# Altium footprint library vsm_lib.PcbLib: 68 footprints (part 1 of 5)
Each footprint in its own frame and in the unit in brackets; x right, y up, seen from the top. Pads: shape width x height; smd on the part's side, far side on the other; paste and mask are expansions set on the pad; w line width, h text height; cw(c..) or ccw(c..) is an arc to the next point about the centre after c.
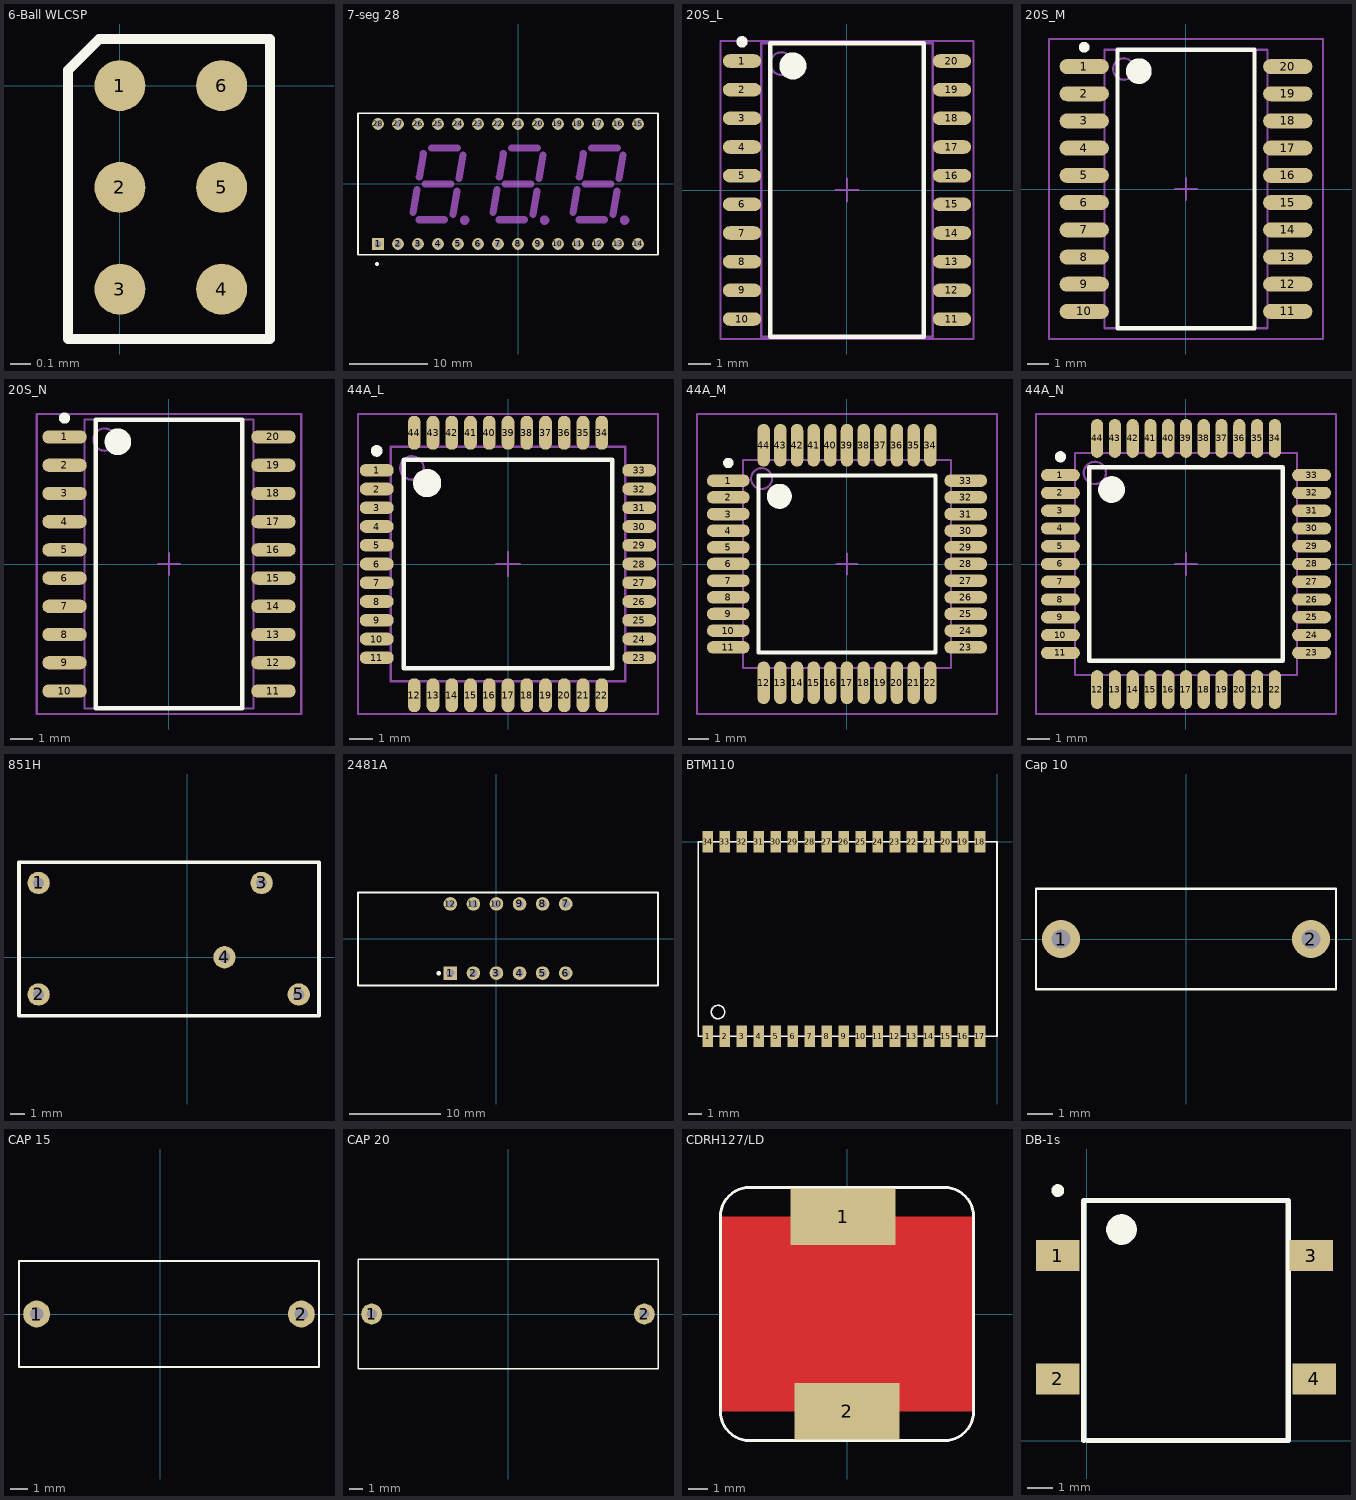
[diagram p0: the footprints below, top view; thin cyan lines are the x and y axes]

## 6-Ball WLCSP [mm]
pads (6):
  round 0.25 smd: 1(0,0) 2(0,-0.5) 3(0,-1) 4(0.5,-1) 5(0.5,-0.5) 6(0.5,0)
Top Overlay:
  lines w0.05: -0.254,-1.245 0.737,-1.245 0.737,0.229 -0.102,0.229 -0.254,0.076 -0.254,-1.245
3D body: height 0.65, standoff 0, extent -0.279,-1.27 0.762,0.254

## 7-seg 28 [mm]
height 8
pads (28):
  rect 1.5x1.5 hole 0.9: 1(-17.78,-7.62)
  round 1.5 hole 0.9: 2(-15.24,-7.62) 3(-12.7,-7.62) 4(-10.16,-7.62) 5(-7.62,-7.62) 6(-5.08,-7.62) 7(-2.54,-7.62) 8(0,-7.62) 9(2.54,-7.62) 10(5.08,-7.62) 11(7.62,-7.62) 12(10.16,-7.62) 13(12.7,-7.62) 14(15.24,-7.62) 15(15.24,7.62) 16(12.7,7.62) 17(10.16,7.62) 18(7.62,7.62) 19(5.08,7.62) 20(2.54,7.62) 21(0,7.62) 22(-2.54,7.62) 23(-5.08,7.62) 24(-7.62,7.62) 25(-10.16,7.62) 26(-12.7,7.62) 27(-15.24,7.62) 28(-17.78,7.62)
Top Overlay:
  circle w0.25: c-17.905,-10.16 r0.125
  lines w0.2: -20.32,-9 -20.32,9 17.78,9 17.78,-9 -20.32,-9
Mechanical 1:
  circle w0.86: c13.53,-4.6 r0.17
  circle w0.86: c-6.77,-4.6 r0.17
  circle w0.86: c3.37,-4.6 r0.17
  lines w0.9: -13.36,-3.65 -12.83,-0.7 ; -12.592,-4.55 -9.33,-4.55 ; -12.54,0.9 -12.03,3.84 ; -11.79,0 -8.51,0 ; -10.988,4.55 -7.72,4.55 ; -8.28,-3.85 -7.76,-0.9 ; -7.48,0.7 -6.96,3.65 ; -3.2,-3.65 -2.67,-0.7 ; -2.432,-4.55 0.83,-4.55 ; -2.38,0.9 -1.87,3.84 ; -1.63,0 1.65,0 ; -0.828,4.55 2.44,4.55 ; 1.88,-3.85 2.4,-0.9 ; 2.68,0.7 3.2,3.65 ; 6.96,-3.65 7.49,-0.7 ; 7.728,-4.55 10.99,-4.55 ; 7.78,0.9 8.29,3.84 ; 8.53,0 11.81,0 ; 9.332,4.55 12.6,4.55 ; 12.04,-3.85 12.56,-0.9 ; 12.84,0.7 13.36,3.65
3D body: height 8, standoff 0, extent -20.32,-9.017 17.78,9.017

## 20S_L [mm] "SOIC, 20-Leads, Body 12.8x7.5mm, Pitch 1.27mm, IPC High Density"
height 2.67
pads (20):
  oval 1.7x0.6 smd: 1(-4.65,5.715) 2(-4.65,4.445) 3(-4.65,3.175) 4(-4.65,1.905) 5(-4.65,0.635) 6(-4.65,-0.635) 7(-4.65,-1.905) 8(-4.65,-3.175) 9(-4.65,-4.445) 10(-4.65,-5.715) 11(4.65,-5.715) 12(4.65,-4.445) 13(4.65,-3.175) 14(4.65,-1.905) 15(4.65,-0.635) 16(4.65,0.635) 17(4.65,1.905) 18(4.65,3.175) 19(4.65,4.445) 20(4.65,5.715)
Top Overlay:
  circle w0.6: c-2.4,5.5 r0.3
  circle w0.25: c-4.65,6.565 r0.125
  lines w0.2: -3.4,-6.5 3.4,-6.5 3.4,6.5 -3.4,6.5 -3.4,-6.5
Mechanical 13:
  circle w0.1: c-2.9,5.6 r0.5
  lines w0.1: -3.8,-6.5 3.8,-6.5 3.8,6.5 -3.8,6.5 -3.8,-6.5
Mechanical 15:
  lines w0.1: -0.5,0 0.5,0 ; 0,-0.5 0,0.5 ; -5.6,-6.6 5.6,-6.6 5.6,6.6 -5.6,6.6 -5.6,-6.6
3D body: height 2.67, standoff 0, extent -3.8,-6.5 3.8,6.5

## 20S_M [mm] "SOIC, 20-Leads, Body 12.8x7.5mm, Pitch 1.27mm, IPC Low Density"
height 2.67
pads (20):
  oval 2.3x0.7 smd: 1(-4.75,5.715) 2(-4.75,4.445) 3(-4.75,3.175) 4(-4.75,1.905) 5(-4.75,0.635) 6(-4.75,-0.635) 7(-4.75,-1.905) 8(-4.75,-3.175) 9(-4.75,-4.445) 10(-4.75,-5.715) 11(4.75,-5.715) 12(4.75,-4.445) 13(4.75,-3.175) 14(4.75,-1.905) 15(4.75,-0.635) 16(4.75,0.635) 17(4.75,1.905) 18(4.75,3.175) 19(4.75,4.445) 20(4.75,5.715)
Top Overlay:
  circle w0.6: c-2.2,5.5 r0.3
  circle w0.25: c-4.75,6.615 r0.125
  lines w0.2: -3.2,-6.5 3.2,-6.5 3.2,6.5 -3.2,6.5 -3.2,-6.5
Mechanical 13:
  circle w0.1: c-2.9,5.6 r0.5
  lines w0.1: -3.8,-6.5 3.8,-6.5 3.8,6.5 -3.8,6.5 -3.8,-6.5
Mechanical 15:
  lines w0.1: -0.5,0 0.5,0 ; 0,-0.5 0,0.5 ; -6.4,-7 6.4,-7 6.4,7 -6.4,7 -6.4,-7
3D body: height 2.67, standoff 0, extent -3.8,-6.5 3.8,6.5

## 20S_N [mm] "SOIC, 20-Leads, Body 12.8x7.5mm, Pitch 1.27mm, IPC Medium Density"
height 2.67
pads (20):
  oval 2x0.6 smd: 1(-4.7,5.715) 2(-4.7,4.445) 3(-4.7,3.175) 4(-4.7,1.905) 5(-4.7,0.635) 6(-4.7,-0.635) 7(-4.7,-1.905) 8(-4.7,-3.175) 9(-4.7,-4.445) 10(-4.7,-5.715) 11(4.7,-5.715) 12(4.7,-4.445) 13(4.7,-3.175) 14(4.7,-1.905) 15(4.7,-0.635) 16(4.7,0.635) 17(4.7,1.905) 18(4.7,3.175) 19(4.7,4.445) 20(4.7,5.715)
Top Overlay:
  circle w0.25: c-4.7,6.565 r0.125
  circle w0.6: c-2.3,5.5 r0.3
  lines w0.2: -3.3,-6.5 -3.3,6.5 3.3,6.5 3.3,-6.5 -3.3,-6.5
Mechanical 13:
  circle w0.1: c-2.9,5.6 r0.5
  lines w0.1: -3.8,-6.5 -3.8,6.5 3.8,6.5 3.8,-6.5 -3.8,-6.5
Mechanical 15:
  lines w0.1: -0.5,0 0.5,0 ; 0,-0.5 0,0.5 ; -5.95,-6.75 -5.95,6.75 5.95,6.75 5.95,-6.75 -5.95,-6.75
3D body: height 2.67, standoff 0, extent -3.8,-6.5 3.8,6.5

## 44A_L [mm] "Thin QFP, 44-Leads, Body 10x10mm, Pitch 0.8mm, IPC High Density"
height 1.2
pads (44):
  oval 1.45x0.55 smd: 1(-5.6,4) 2(-5.6,3.2) 3(-5.6,2.4) 4(-5.6,1.6) 5(-5.6,0.8) 6(-5.6,0) 7(-5.6,-0.8) 8(-5.6,-1.6) 9(-5.6,-2.4) 10(-5.6,-3.2) 11(-5.6,-4) 23(5.6,-4) 24(5.6,-3.2) 25(5.6,-2.4) 26(5.6,-1.6) 27(5.6,-0.8) 28(5.6,0) 29(5.6,0.8) 30(5.6,1.6) 31(5.6,2.4) 32(5.6,3.2) 33(5.6,4)
  oval 0.55x1.45 smd: 12(-4,-5.6) 13(-3.2,-5.6) 14(-2.4,-5.6) 15(-1.6,-5.6) 16(-0.8,-5.6) 17(0,-5.6) 18(0.8,-5.6) 19(1.6,-5.6) 20(2.4,-5.6) 21(3.2,-5.6) 22(4,-5.6) 34(4,5.6) 35(3.2,5.6) 36(2.4,5.6) 37(1.6,5.6) 38(0.8,5.6) 39(0,5.6) 40(-0.8,5.6) 41(-1.6,5.6) 42(-2.4,5.6) 43(-3.2,5.6) 44(-4,5.6)
Top Overlay:
  circle w0.6: c-3.45,3.45 r0.3
  circle w0.25: c-5.6,4.825 r0.125
  lines w0.2: -4.45,-4.45 4.45,-4.45 4.45,4.45 -4.45,4.45 -4.45,-4.45
Mechanical 13:
  circle w0.1: c-4.1,4.1 r0.5
  lines w0.1: -5,-5 5,-5 5,5 -5,5 -5,-5
Mechanical 15:
  lines w0.1: -0.5,0 0.5,0 ; 0,-0.5 0,0.5 ; -6.4,-6.4 6.4,-6.4 6.4,6.4 -6.4,6.4 -6.4,-6.4
3D body: height 1.2, standoff 0, extent -5,-5 5,5

## 44A_M [mm] "Thin QFP, 44-Leads, Body 10x10mm, Pitch 0.8mm, IPC Low Density"
height 1.2
pads (44):
  oval 2.05x0.6 smd: 1(-5.7,4) 2(-5.7,3.2) 3(-5.7,2.4) 4(-5.7,1.6) 5(-5.7,0.8) 6(-5.7,0) 7(-5.7,-0.8) 8(-5.7,-1.6) 9(-5.7,-2.4) 10(-5.7,-3.2) 11(-5.7,-4) 23(5.7,-4) 24(5.7,-3.2) 25(5.7,-2.4) 26(5.7,-1.6) 27(5.7,-0.8) 28(5.7,0) 29(5.7,0.8) 30(5.7,1.6) 31(5.7,2.4) 32(5.7,3.2) 33(5.7,4)
  oval 0.6x2.05 smd: 12(-4,-5.7) 13(-3.2,-5.7) 14(-2.4,-5.7) 15(-1.6,-5.7) 16(-0.8,-5.7) 17(0,-5.7) 18(0.8,-5.7) 19(1.6,-5.7) 20(2.4,-5.7) 21(3.2,-5.7) 22(4,-5.7) 34(4,5.7) 35(3.2,5.7) 36(2.4,5.7) 37(1.6,5.7) 38(0.8,5.7) 39(0,5.7) 40(-0.8,5.7) 41(-1.6,5.7) 42(-2.4,5.7) 43(-3.2,5.7) 44(-4,5.7)
Top Overlay:
  circle w0.6: c-3.25,3.25 r0.3
  circle w0.25: c-5.7,4.85 r0.125
  lines w0.2: -4.25,-4.25 4.25,-4.25 4.25,4.25 -4.25,4.25 -4.25,-4.25
Mechanical 13:
  circle w0.1: c-4.1,4.1 r0.5
  lines w0.1: -5,-5 5,-5 5,5 -5,5 -5,-5
Mechanical 15:
  lines w0.1: -0.5,0 0.5,0 ; 0,-0.5 0,0.5 ; -7.2,-7.2 7.2,-7.2 7.2,7.2 -7.2,7.2 -7.2,-7.2
3D body: height 1.2, standoff 0, extent -5,-5 5,5

## 44A_N [mm] "Thin QFP, 44-Leads, Body 10x10mm, Pitch 0.8mm, IPC Medium Density"
height 1.2
pads (44):
  oval 1.75x0.55 smd: 1(-5.65,4) 2(-5.65,3.2) 3(-5.65,2.4) 4(-5.65,1.6) 5(-5.65,0.8) 6(-5.65,0) 7(-5.65,-0.8) 8(-5.65,-1.6) 9(-5.65,-2.4) 10(-5.65,-3.2) 11(-5.65,-4) 23(5.65,-4) 24(5.65,-3.2) 25(5.65,-2.4) 26(5.65,-1.6) 27(5.65,-0.8) 28(5.65,0) 29(5.65,0.8) 30(5.65,1.6) 31(5.65,2.4) 32(5.65,3.2) 33(5.65,4)
  oval 0.55x1.75 smd: 12(-4,-5.65) 13(-3.2,-5.65) 14(-2.4,-5.65) 15(-1.6,-5.65) 16(-0.8,-5.65) 17(0,-5.65) 18(0.8,-5.65) 19(1.6,-5.65) 20(2.4,-5.65) 21(3.2,-5.65) 22(4,-5.65) 34(4,5.65) 35(3.2,5.65) 36(2.4,5.65) 37(1.6,5.65) 38(0.8,5.65) 39(0,5.65) 40(-0.8,5.65) 41(-1.6,5.65) 42(-2.4,5.65) 43(-3.2,5.65) 44(-4,5.65)
Top Overlay:
  circle w0.6: c-3.35,3.35 r0.3
  circle w0.25: c-5.65,4.825 r0.125
  lines w0.2: -4.35,-4.35 4.35,-4.35 4.35,4.35 -4.35,4.35 -4.35,-4.35
Mechanical 13:
  circle w0.1: c-4.1,4.1 r0.5
  lines w0.1: -5,-5 5,-5 5,5 -5,5 -5,-5
Mechanical 15:
  lines w0.1: -0.5,0 0.5,0 ; 0,-0.5 0,0.5 ; -6.75,-6.75 6.75,-6.75 6.75,6.75 -6.75,6.75 -6.75,-6.75
3D body: height 1.2, standoff 0, extent -5,-5 5,5

## 851H [mil]
pads (5):
  round 60 hole 30: 1(-400,200) 2(-400,-100) 3(200,200) 4(100,0) 5(300,-100)
Top Overlay:
  lines w10: -452.76,-157.48 354.33,-157.48 354.33,255.91 -452.76,255.91 -452.76,-157.48
3D body: height 787.4, standoff 0, extent -455,-155 355,255

## 2481A [mm]
height 5
pads (12):
  rect 1.5x1.5 hole 0.9: 1(-5.08,-3.81)
  round 1.5 hole 0.9: 2(-2.54,-3.81) 3(0,-3.81) 4(2.54,-3.81) 5(5.08,-3.81) 6(7.62,-3.81) 7(7.62,3.81) 8(5.08,3.81) 9(2.54,3.81) 10(0,3.81) 11(-2.54,3.81) 12(-5.08,3.81)
Top Overlay:
  circle w0.25: c-6.35,-3.81 r0.125
  lines w0.2: -15.24,-5.19 -15.24,5.08 17.78,5.08 17.78,-5.19 -15.24,-5.19
3D body: height 5, standoff 0, extent -15.24,-5.144 17.78,5.143

## BTM110 [mm]
height 3
pads (34):
  rect 0.8x1.6 smd: 1(-21.59,-14.5) 2(-20.32,-14.5) 3(-19.05,-14.5) 4(-17.78,-14.5) 5(-16.51,-14.5) 6(-15.24,-14.5) 7(-13.97,-14.5) 8(-12.7,-14.5) 9(-11.43,-14.5) 10(-10.16,-14.5) 11(-8.89,-14.5) 12(-7.62,-14.5) 13(-6.35,-14.5) 14(-5.08,-14.5) 15(-3.81,-14.5) 16(-2.54,-14.5) 17(-1.27,-14.5) 18(-1.27,0) 19(-2.54,0) 20(-3.81,0) 21(-5.08,0) 22(-6.35,0) 23(-7.62,0) 24(-8.89,0) 25(-10.16,0) 26(-11.43,0) 27(-12.7,0) 28(-13.97,0) 29(-15.24,0) 30(-16.51,0) 31(-17.78,0) 32(-19.05,0) 33(-20.32,0) 34(-21.59,0)
Top Overlay:
  circle w0.127: c-20.82,-12.7 r0.5
  lines w0.127: -22.3,-14.5 -22.3,0 0,0 0,-14.5 -22.3,-14.5
3D body: height 3, standoff 0, extent -22.3,-14.5 0,0
3D body: height 3, standoff 0, extent -22.3,-14.5 0,0

## Cap 10 [mil]
pads (2):
  round 60 hole 30: 1(-196.85,0) 2(196.85,0)
Top Overlay:
  lines w3.94: -236.22,-78.74 -236.22,78.74 236.22,78.74 236.22,-78.74 -236.22,-78.74

## CAP 15 [mil]
pads (2):
  round 60 hole 30: 1(-275.59,0) 2(314.96,0)
Top Overlay:
  lines w3.94: -314.96,-118.11 354.33,-118.11 354.33,118.11 -314.96,118.11 -314.96,-118.11

## CAP 20 [mil]
pads (2):
  round 60 hole 30: 1(-393.7,0) 2(393.7,0)
Top Overlay:
  lines w3.94: -433.07,-157.48 433.07,-157.48 433.07,157.48 -433.07,157.48 -433.07,-157.48

## CDRH127/LD [mm]
pads (2):
  rect 5.4x2.9 smd: 1(-0.2,5) 2(0,-5)
Top Layer:
  pour cut-out: 6.5,5 6.5,-5 -6.5,-5 -6.5,5
Top Overlay:
  lines w0.15: -6.5,-5 ccw(c-5,-5) -5,-6.5 5,-6.5 ccw(c5,-5) 6.5,-5 6.5,5 ccw(c5,5) 5,6.5 -5,6.5 ccw(c-5,5) -6.5,5 -6.5,-5
3D body: height 8, standoff 0, extent -6.5,-6.5 6.5,6.5
3D body: height 8, standoff 0, extent -6.488,3.503 -3.5,6.497
3D body: height 8, standoff 0, extent -6.488,-6.497 -3.5,-3.503
3D body: height 8, standoff 0, extent 3.512,-6.497 6.5,-3.503
3D body: height 8, standoff 0, extent 3.512,3.503 6.5,6.497

## DB-1s [mm]
pads (4):
  rect 1.7x1.2 smd: 1(-1.143,7.239) 2(-1.143,2.413) 3(8.763,7.239) 4(8.89,2.413)
Top Overlay:
  circle w0.6: c1.351,8.255 r0.3
  circle w0.25: c-1.141,9.779 r0.125
  lines w0.2: -0.127,0 -0.127,9.3 ; -0.127,9.398 7.874,9.398 ; 0,0 7.874,0 7.874,9.3
3D body: height 4, standoff 0, extent -0.127,0 7.874,9.398